# Altium footprint library SnapEDApcb.PcbLib: 1 footprints
Each footprint in its own frame and in the unit in brackets; x right, y up, seen from the top. Pads: shape width x height; smd on the part's side, far side on the other; paste and mask are expansions set on the pad; w line width, h text height; cw(c..) or ccw(c..) is an arc to the next point about the centre after c.
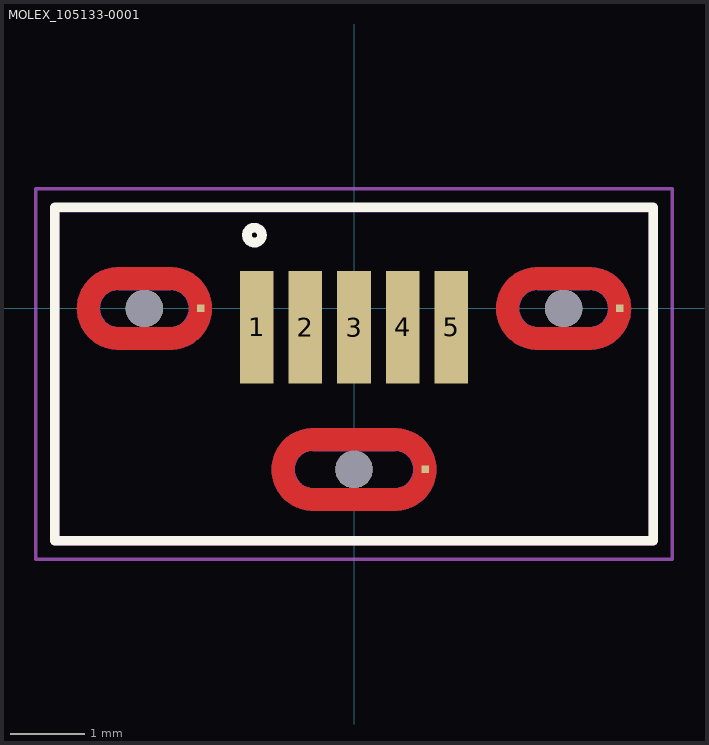
[diagram p0: the footprint, top view; thin cyan lines are the x and y axes]

## MOLEX_105133-0001 [mm]
pads (11):
  rect 0.45x1.5 smd: 1(-1.3,-0.25) 2(-0.65,-0.25) 3(0,-0.25) 4(0.65,-0.25) 5(1.3,-0.25)
  rect 0.1x0.1 smd paste-1 mask+0: S1(-2.05,0) S2(3.55,0) S3(0.95,-2.15)
  round 0.5 hole 0.5 unplated: ""(-2.8,0) ""(0,-2.15) ""(2.8,0)
Top Layer:
  region: 248 vertices and 0 holes, not listed, extent 1.9,-0.55 3.7,0.55
  region: 248 vertices and 0 holes, not listed, extent -3.7,-0.55 -1.9,0.55
  region: 248 vertices and 0 holes, not listed, extent -1.1,-2.7 1.1,-1.6
Bottom Layer:
  region: 248 vertices and 0 holes, not listed, extent 1.9,-0.55 3.7,0.55
  region: 248 vertices and 0 holes, not listed, extent -3.7,-0.55 -1.9,0.55
  region: 248 vertices and 0 holes, not listed, extent -1.1,-2.7 1.1,-1.6
Top Overlay:
  circle w0.13: c-1.33,0.98 r0.1
  lines w0.127: -4,1.34 -4,-3.1 4,-3.1 4,1.35 -4,1.35
Top Paste:
  drawing of 3 lines, arcs and shapes, not listed
Bottom Paste:
  drawing of 3 lines, arcs and shapes, not listed
Top Solder:
  region: 1.25,-2.914 -1.256,-2.914 -1.256,-1.4 1.25,-1.4
  region: 3.925,-0.754 1.684,-0.754 1.684,0.75 3.925,0.75
  region: -1.675,-0.754 -3.945,-0.754 -3.945,0.75 -1.675,0.75
Bottom Solder:
  region: 1.25,-2.912 -1.255,-2.912 -1.255,-1.4 1.25,-1.4
  region: 3.925,-0.755 1.687,-0.755 1.687,0.75 3.925,0.75
  region: -1.675,-0.754 -3.946,-0.754 -3.946,0.75 -1.675,0.75
Mechanical 1:
  lines w0.005: -3.4,0 ccw(c-3.15,0) -3.15,-0.25 -2.45,-0.25 ccw(c-2.45,0) -2.2,0 ccw(c-2.45,0) -2.45,0.25 -3.15,0.25 ccw(c-3.15,0) -3.4,0 ; -0.8,-2.15 ccw(c-0.55,-2.15) -0.55,-2.4 0.55,-2.4 ccw(c0.55,-2.15) 0.8,-2.15 ccw(c0.55,-2.15) 0.55,-1.9 -0.55,-1.9 ccw(c-0.55,-2.15) -0.8,-2.15 ; 2.2,0 ccw(c2.45,0) 2.45,-0.25 3.15,-0.25 ccw(c3.15,0) 3.4,0 ccw(c3.15,0) 3.15,0.25 2.45,0.25 ccw(c2.45,0) 2.2,0
Mechanical 13:
  lines w0.127: -4,-3.1 4,-3.1 4,1.345 -4,1.345 -4,-3.1
Mechanical 15:
  lines w0.05: -4.25,-3.35 4.25,-3.35 4.25,1.6 -4.25,1.6 -4.25,-3.35